# EAGLE library part ATXMEGA256A3U (library robotter_ic)
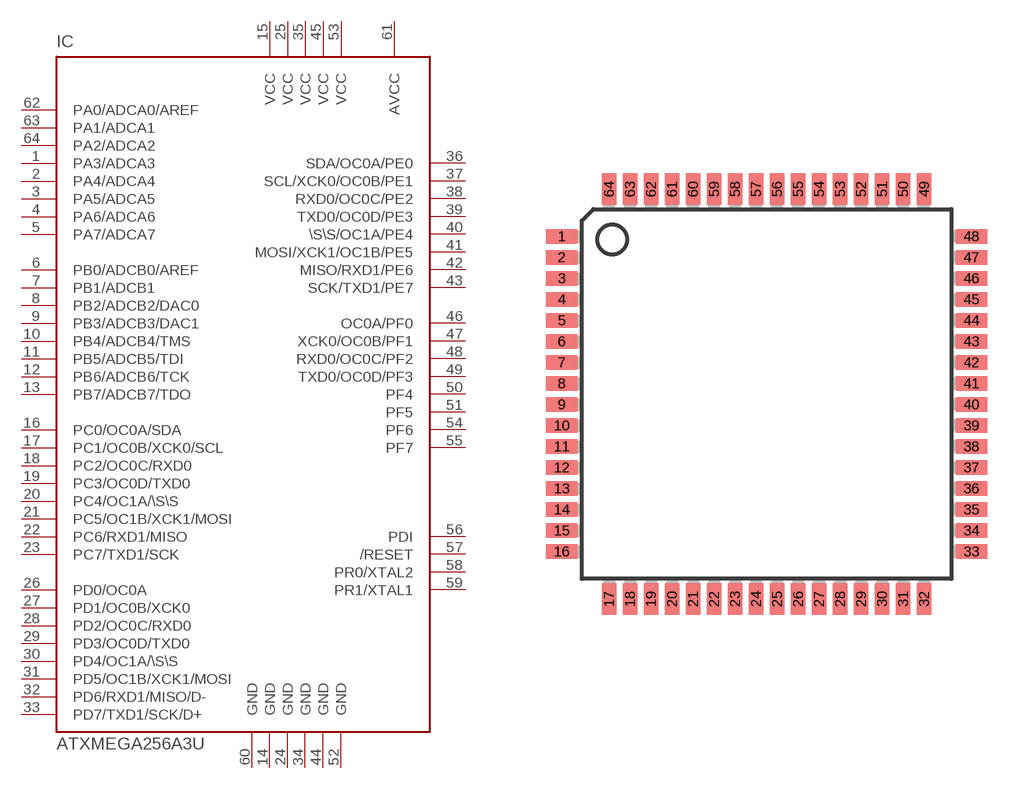
[diagram p14: symbol with the pads of TQFP64; footprint TQFP64]

Designator prefix IC

## ATXMEGA256A3U-AU (FARNELL: 2066307; MOUSER: 556-ATXMEGA256A3U-AU)  [TQFP64]
1  PA3/ADCA3
2  PA4/ADCA4
3  PA5/ADCA5
4  PA6/ADCA6
5  PA7/ADCA7
6  PB0/ADCB0/AREF
7  PB1/ADCB1
8  PB2/ADCB2/DAC0
9  PB3/ADCB3/DAC1
10  PB4/ADCB4/TMS
11  PB5/ADCB5/TDI
12  PB6/ADCB6/TCK
13  PB7/ADCB7/TDO
14  GND
15  VCC
16  PC0/OC0A/SDA
17  PC1/OC0B/XCK0/SCL
18  PC2/OC0C/RXD0
19  PC3/OC0D/TXD0
20  PC4/OC1A/\S\S
21  PC5/OC1B/XCK1/MOSI
22  PC6/RXD1/MISO
23  PC7/TXD1/SCK
24  GND
25  VCC
26  PD0/OC0A
27  PD1/OC0B/XCK0
28  PD2/OC0C/RXD0
29  PD3/OC0D/TXD0
30  PD4/OC1A/\S\S
31  PD5/OC1B/XCK1/MOSI
32  PD6/RXD1/MISO/D-
33  PD7/TXD1/SCK/D+
34  GND
35  VCC
36  SDA/OC0A/PE0
37  SCL/XCK0/OC0B/PE1
38  RXD0/OC0C/PE2
39  TXD0/OC0D/PE3
40  \S\S/OC1A/PE4
41  MOSI/XCK1/OC1B/PE5
42  MISO/RXD1/PE6
43  SCK/TXD1/PE7
44  GND
45  VCC
46  OC0A/PF0
47  XCK0/OC0B/PF1
48  RXD0/OC0C/PF2
49  TXD0/OC0D/PF3
50  PF4
51  PF5
52  GND
53  VCC
54  PF6
55  PF7
56  PDI
57  /RESET
58  PR0/XTAL2
59  PR1/XTAL1
60  GND
61  AVCC
62  PA0/ADCA0/AREF
63  PA1/ADCA1
64  PA2/ADCA2

## Footprint TQFP64 (pad centres in mm)
Thin Plasic Quad Flat Package Updated from atml.lbr 17.01.2005 alf@cadsoft.de
smd 1.194 x 0.559: 1 -7.8,6; 2 -7.8,5.2; 3 -7.8,4.4; 4 -7.8,3.6; 5 -7.8,2.8; 6 -7.8,2; 7 -7.8,1.2; 8 -7.8,0.4; 9 -7.8,-0.4; 10 -7.8,-1.2; 11 -7.8,-2; 12 -7.8,-2.8; 13 -7.8,-3.6; 14 -7.8,-4.4; 15 -7.8,-5.2; 16 -7.8,-6; 33 7.8,-6; 34 7.8,-5.2; 35 7.8,-4.4; 36 7.8,-3.6; 37 7.8,-2.8; 38 7.8,-2; 39 7.8,-1.2; 40 7.8,-0.4; 41 7.8,0.4; 42 7.8,1.2; 43 7.8,2; 44 7.8,2.8; 45 7.8,3.6; 46 7.8,4.4; 47 7.8,5.2; 48 7.8,6
smd 0.559 x 1.194: 17 -6,-7.8; 18 -5.2,-7.8; 19 -4.4,-7.8; 20 -3.6,-7.8; 21 -2.8,-7.8; 22 -2,-7.8; 23 -1.2,-7.8; 24 -0.4,-7.8; 25 0.4,-7.8; 26 1.2,-7.8; 27 2,-7.8; 28 2.8,-7.8; 29 3.6,-7.8; 30 4.4,-7.8; 31 5.2,-7.8; 32 6,-7.8; 49 6,7.8; 50 5.2,7.8; 51 4.4,7.8; 52 3.6,7.8; 53 2.8,7.8; 54 2,7.8; 55 1.2,7.8; 56 0.4,7.8; 57 -0.4,7.8; 58 -1.2,7.8; 59 -2,7.8; 60 -2.8,7.8; 61 -3.6,7.8; 62 -4.4,7.8; 63 -5.2,7.8; 64 -6,7.8